# Altium schematic symbol library NG_Mechanical.SchLib: 19 symbols
Pins are listed as number, name and electrical type; pins without a type are passive.

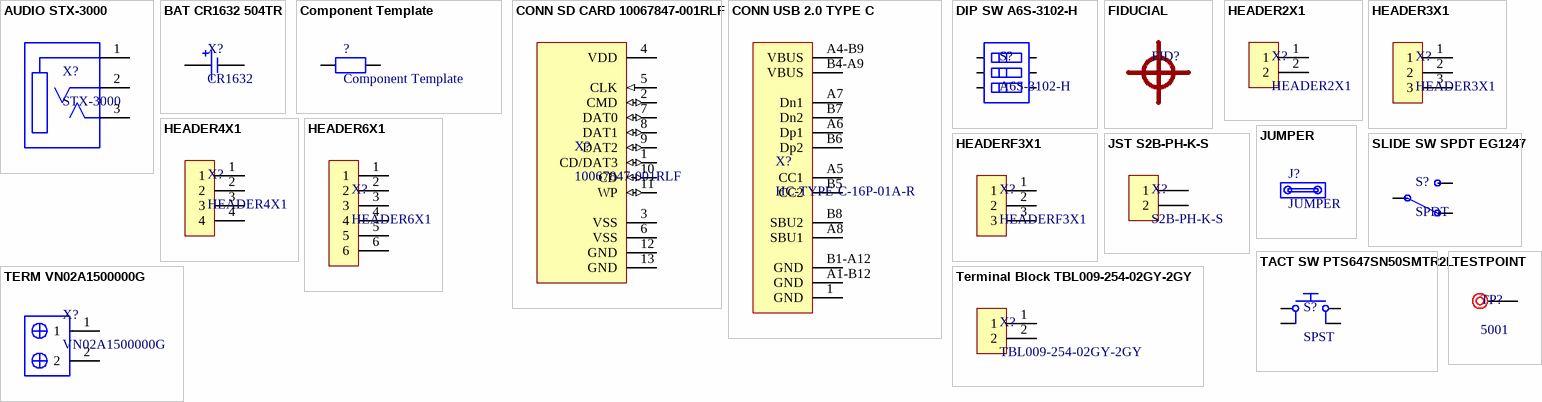
[diagram p0: symbols AUDIO STX-3000 to TESTPOINT]

## AUDIO STX-3000
designator X?, comment STX-3000
3.5mm Audio connector, 3POS; MFR: Kycon; SPN: 806-STX-3000; Checked: No; Supplier: Mouser; MFRN: STX-3000; Link: https://hr.mouser.com/ProductDetail/Kycon/STX-3000?qs=sGAEpiMZZMv0W4pxf2HiV8G8PVhdMuD0EShHAQC6epY%3D
footprint AUDIO STX-3000 (3.5mm Audio connector, 3POS)
pins: 1, 2, 3

## BAT CR1632 504TR
designator X?, comment CR1632
CR1632 Battery Holder; MFR: Keystone Electronics; MFRN: 504TR; SPN: 534-504TR; Checked: Yes; Footprint: CR1632; Supplier: Mouser; Link: https://hr.mouser.com/ProductDetail/Keystone-Electronics/504TR?qs=wOxb8XianXgdUUlyBf7H3Q%3D%3D
footprint BAT_504TR (Generic description)
pins: 1 P (power), 2 N (power)

## Component Template
designator ?
Generic Description; Checked: No; MFR: ?; Supplier: Mouser; SPN: ?; MFRN: ?; Link: *
pins: 1, 2

## CONN SD CARD 10067847-001RLF
designator X?, comment 10067847-001RLF
SD card connector, push-push, SMD; MFR: Amphenol ICC (FCI); SPN: 649-10067847-001RLF; Checked: Yes; Footprint: SD CARD; Supplier: Mouser; MFRN: 10067847-001RLF; Link: https://hr.mouser.com/ProductDetail/Amphenol-FCI/10067847-001RLF?qs=l0I8jaqwYiAPKRqr0Pw%2FWA%3D%3D
footprint SD_10067847-001RLF (SD card connector)
pins: 1 CD/DAT3 (io), 2 CMD (io), 3 VSS (power), 4 VDD (power), 5 CLK (in), 6 VSS (power), 7 DAT0 (io), 8 DAT1 (io), 9 DAT2 (io), 10 CD (io), 11 WP (io), 12 GND (power), 13 GND (power)

## CONN USB 2.0 TYPE C
designator X?, comment HC-TYPE-C-16P-01A-R
USB TYPE-C 3.1, 3A; MFR: GCT; MFRN: USB4105-GF-A; SPN: 640-USB4105-GF-A; Checked: Yes; Footprint: USB Type C; Supplier: Mouser; Link: https://hr.mouser.com/ProductDetail/GCT/USB4105-GF-A?qs=KUoIvG%2F9IlY%2FMLlBMpStpA%3D%3D
footprint GCT_USB4105-GF-A (CONN USB 2.0 TYPE C)
pins: 1 GND (power), A1-B12 GND (power), A4-B9 VBUS (power), A5 CC1, A6 Dp1, A7 Dn1, A8 SBU1, B1-A12 GND (power), B4-A9 VBUS (power), B5 CC2, B6 Dp2, B7 Dn2, B8 SBU2

## DIP SW A6S-3102-H
designator S?, comment A6S-3102-H
DIP Switch, 3POS, P=2.54mm; MFR: E-Switch; SPN: 653-A6S-3102-H; Checked: No; Footprint: SW_EG1247; Supplier: Mouser; MFRN: A6S-3102-H; Link: https://hr.mouser.com/ProductDetail/Omron-Electronics/A6S-3102-H?qs=ZP3UR5XsUoddRS6xZKF2wA%3D%3D
footprint DIP980W50P254L856H300Q6 SWITCH (DIP SWITCH 3WAY)
pins: 1, 2, 3, 4, 5, 6

## FIDUCIAL
designator FID?, comment FID  (value not drawn)  (no BOM)
Fiducial marker; Checked: Yes; Footprint: ?; MFR: ?; Supplier: Mouser; SPN: ?; MFRN: ?; Link: *
footprint FIDUCIAL

## HEADER2X1
designator X?
Pin Header 2x1, P2.54; MFR: Adam Tech; MFRN: PH1-02-UA; SPN: 737-PH1-02-UA; Checked: Yes; Footprint: HEADER2X1; Supplier: Mouser; Link: https://hr.mouser.com/ProductDetail/Adam-Tech/PH1-02-UA?qs=HoCaDK9Nz5dVT5LAE%2F6mlA%3D%3D
footprint HDRV2W64P254_2X1_508X254X1150 (Generic description)
pins: 1, 2

## HEADER3X1
designator X?
Pin Header 3x1, P2.54; MFR: Samtec; MFRN: TSW-103-07-T-S; SPN: 200-TSW10307TS; Checked: Yes; Footprint: HEADER3X1; Supplier: Mouser; Link: https://hr.mouser.com/ProductDetail/Samtec/TSW-103-07-T-S?qs=hzq9O0YpnZs1xDByQQIs%2FQ%3D%3D
footprint HDRV3W64P254_1X3_813X254X850P (Generic description)
pins: 1, 2, 3

## HEADER4X1
designator X?
Pin Header 4x1, P2.54; MFR: Würth Elektronik; MFRN: 61300411121; SPN: 710-61300411121; Checked: Yes; Footprint: HEADER4X1; Supplier: Mouser; Link: https://hr.mouser.com/ProductDetail/Wurth-Elektronik/61300411121?qs=PhR8RmCirEYQcLLqXD8rAA%3D%3D
footprint HDRV4W64P254_4X1_1016X254X1150 (Generic description)
pins: 1, 2, 3, 4

## HEADER6X1
designator X?
Pin header, 6x1, 100mil pitch; MFR: Adam Tech; MFRN: PH1-06-UA; SPN: 737-PH1-06-UA; Checked: Yes; Footprint: HEADER6X1; Supplier: Mouser; Link: https://hr.mouser.com/ProductDetail/Adam-Tech/PH1-06-UA?qs=HoCaDK9Nz5eIYt3TJpOa9Q%3D%3D
footprint HDR6W64P254_6X1_1524X254X1150 (Pin header 6X1 right angle)
pins: 1, 2, 3, 4, 5, 6

## HEADERF3X1
designator X?
Pin Header Female 3x1, P2.54; MFR: TE Connectivity; MFRN: 829265-3; SPN: 571-829265-3; Checked: Yes; Footprint: HEADERF3X1; Supplier: Mouser; Link: https://hr.mouser.com/ProductDetail/TE-Connectivity/829265-3?qs=7BKHnIkcSF9wEfFL9nlFjQ%3D%3D
footprint HDRVF3W64P254_1X3_813X254X850P (Footprint not found)
pins: 1, 2, 3

## JST S2B-PH-K-S
designator X?, comment S2B-PH-K-S
JST PH Connector 2POS R/A THT; MFR: JST Sales America Inc.; SPN: 455-1719-ND; Checked: Yes; Footprint: JST_S2B-PH-K-S; Supplier: Digi-Key; MFRN: S2B-PH-K-S; Link: https://www.digikey.com/en/products/detail/jst-sales-america-inc/S2B-PH-K-S/926626
footprint JST_S2B-PH-K-S (Generic description)
pins: 1, 2

## JUMPER
designator J?  (mechanical)
Jumper, Open Top, 3A, 2.54mm; MFR: Kycon, Inc.; MFRN: SX1100-A; SPN: 806-SX1100-A; Checked: Yes; Footprint: Open Top; Supplier: Mouser; Link: https://hr.mouser.com/ProductDetail/Kycon/SX1100-A?qs=oKK8NaWdAJsFACmjTXWRvg%3D%3D

## SLIDE SW SPDT EG1247
designator S?, comment SPDT
Slide switch, SPDT, 30V, 200mA; MFR: E-Switch; MFRN: EG1247; SPN: 612-EG1247; Checked: Yes; Footprint: SW_EG1247; Supplier: Mouser; Link: https://hr.mouser.com/ProductDetail/E-Switch/EG1247?qs=f57gQzlyLipcFAi33bvweA%3D%3D
footprint SW_EG1247 (Footprint not found)
pins: 1, 2, 3

## TACT SW PTS647SN50SMTR2L
designator S?, comment SPST
TACT SW, SPST, NO; MFR: C&K; MFRN: PTS647SN50SMTR2LFS; SPN: 611-PTS647SN50SMTR2L; Checked: Yes; Footprint: SW_TSA063G60-250; Supplier: Mouser; Link: https://hr.mouser.com/ProductDetail/CK/PTS647SN50SMTR2LFS?qs=PqoDHHvF649f0IHjdDfo1A%3D%3D
footprint SW_TSA063G60-250 (TACT SW TSA063G60-250)
pins: 1, 2, 3 (power), 4 (power)

## TERM VN02A1500000G
designator X?, comment VN02A1500000G
Terminal block, Screw, 2POS, P=2.54mm; MFR: Amphenol Anytek; SPN: 649-VN02A15000J0G; Checked: Yes; Footprint: P2.54; Supplier: Mouser; MFRN: VN02A1500000G; Link: https://hr.mouser.com/ProductDetail/Amphenol-Anytek/VN02A1500000G?qs=sGAEpiMZZMvPvGwLNS671%2FDanv8Jav0682ca2hqJDw5n16cso0EwgA%3D%3D
footprint TERM VN02A1500000G (Terminal block, P=2.54mm)
pins: 1, 2

## Terminal Block TBL009-254-02GY-2GY
designator X?, comment TBL009-254-02GY-2GY
Terminal Block, Push-In, 1x2, P2.54; MFR: Adam Tech; MFRN: PH1-02-UA; SPN: 737-PH1-02-UA; Checked: Yes; Footprint: HEADER2X1; Supplier: Mouser; Link: https://hr.mouser.com/ProductDetail/Adam-Tech/PH1-02-UA?qs=HoCaDK9Nz5dVT5LAE%2F6mlA%3D%3D
footprint HDRV2W64P254_2X1_508X254X1150 (Generic description)
pins: 1, 2

## TESTPOINT
designator TP?, comment 5001
Testpoint; MFR: Keystone; SPN: 534-5001; Checked: Yes; Footprint: Test Point; Supplier: Mouser; MFRN: 5001; Link: https://hr.mouser.com/ProductDetail/Keystone-Electronics/5001?qs=q0tsjPZWdm%2FW0vdr%2FwowKg%3D%3D
footprint TESTPOINT (Generic description)
pins: 1